# Altium schematic symbol library FET_P_CHANNEL_ENH_SSSGDDDD.SchLib: 1 symbol
Pins are listed as number, name and electrical type; pins without a type are passive.

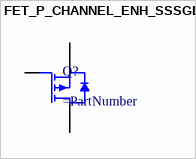
[diagram p0: symbol FET_P_CHANNEL_ENH_SSSGDDDD]

## FET_P_CHANNEL_ENH_SSSGDDDD
designator Q?
pins: 1 S, 2 S, 3 S, 4 G, 5 D, 6 D, 7 D, 8 D